# Altium footprint library SMT Chips.PcbLib: 19 footprints (part 1 of 2)
Each footprint in its own frame and in the unit in brackets; x right, y up, seen from the top. Pads: shape width x height; smd on the part's side, far side on the other; paste and mask are expansions set on the pad; w line width, h text height; cw(c..) or ccw(c..) is an arc to the next point about the centre after c.
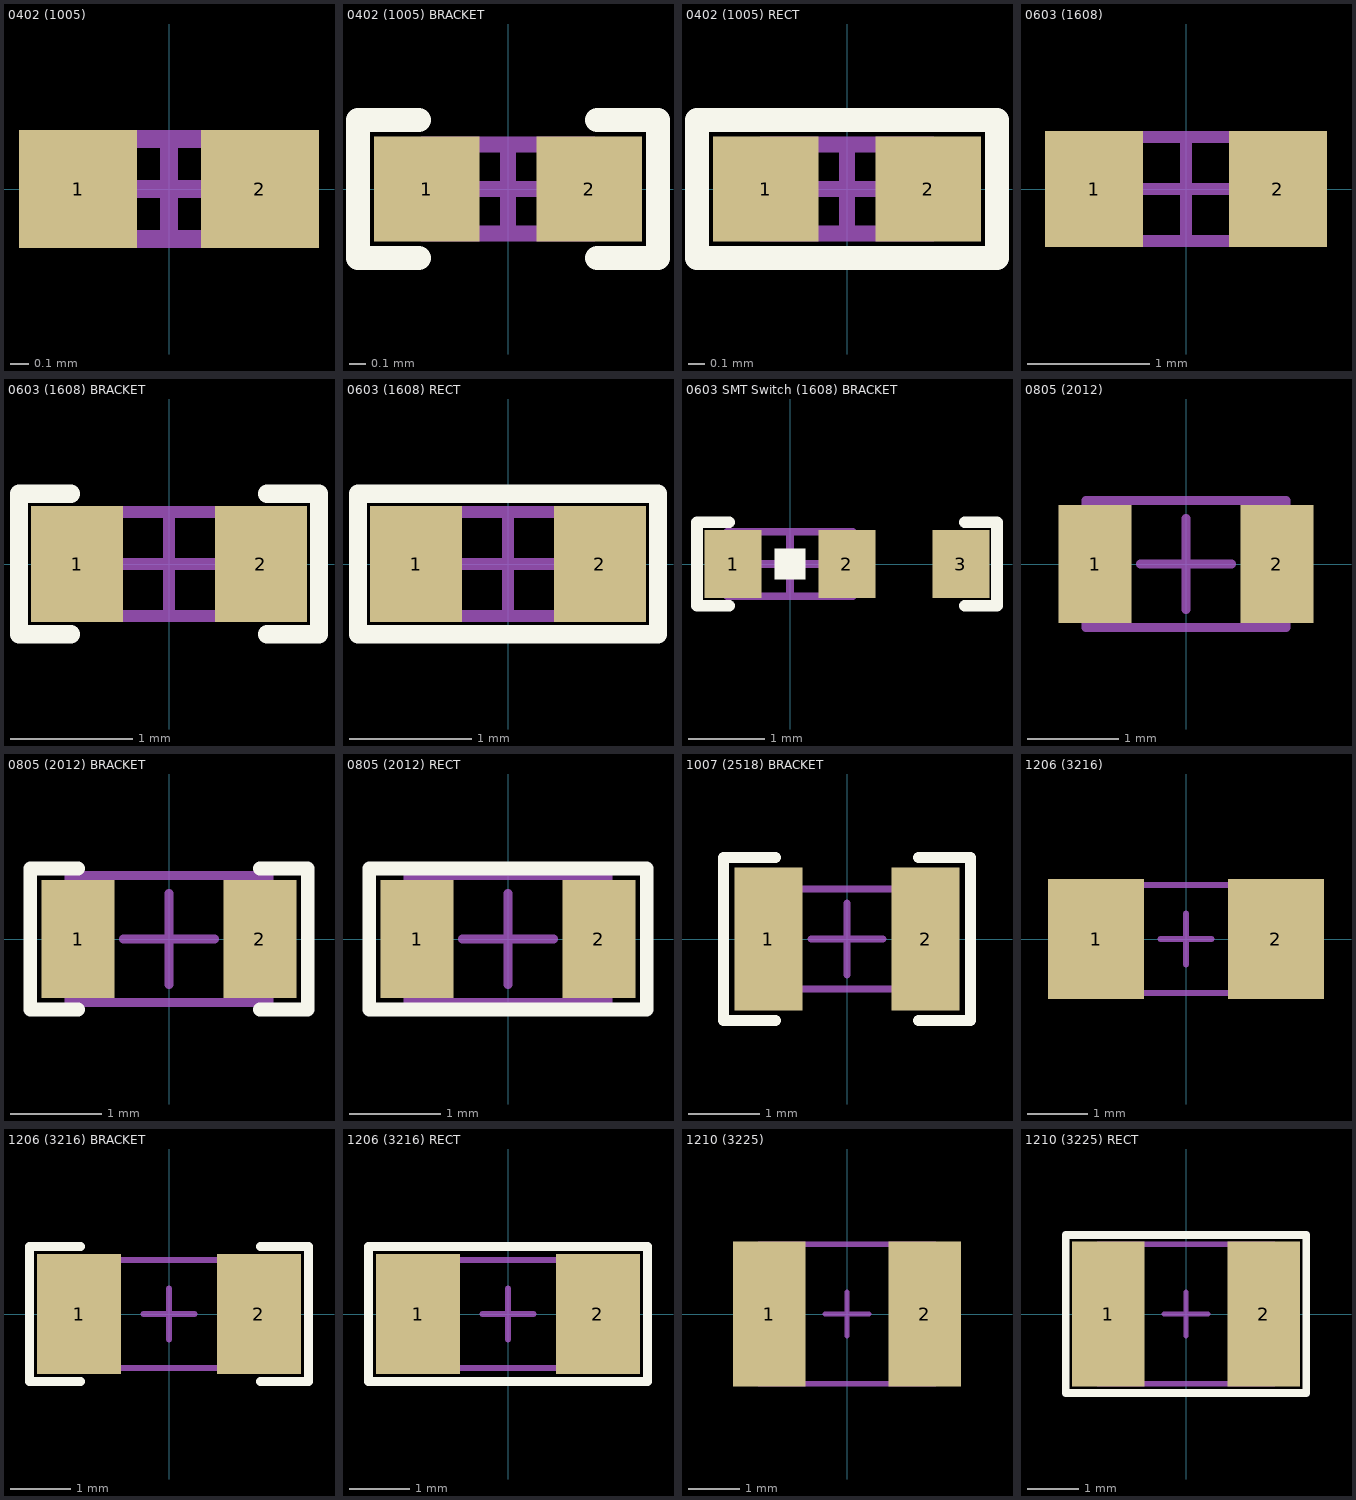
[diagram p0: the footprints below, top view; thin cyan lines are the x and y axes]

## 0402 (1005) [mm] "Chip 2-Leads 0402 Body 1.0x0.5mm (1005)"
height 0.5
pads (2):
  rect 0.65x0.65 smd mask+0: 1(-0.5,0) 2(0.5,0)
Mechanical 13:
  lines w0.1: -0.525,-0.275 -0.525,0.275 0.525,0.275 0.525,-0.275 -0.525,-0.275
Mechanical 15:
  lines w0.1: -0.275,0 0.275,0 ; 0,-0.275 0,0.275
3D body: height 0.55, standoff 0, extent 0.33,-0.279 0.533,0.279
3D body: height 0.53, standoff 0.03, extent -0.356,-0.254 0.356,0.254
3D body: height 0.55, standoff 0, extent -0.533,-0.279 -0.33,0.279

## 0402 (1005) BRACKET [mm] "Chip 2-Leads 0402 Body 1.0x0.5mm Bracket Silk Screen (1005)"
height 0.5
pads (2):
  rect 0.65x0.65 smd mask+0: 1(-0.5,0) 2(0.5,0)
Top Overlay:
  lines w0.15: -0.55,-0.425 -0.925,-0.425 -0.925,0.425 -0.55,0.425 ; 0.55,-0.425 0.925,-0.425 0.925,0.425 0.55,0.425
Mechanical 13:
  lines w0.1: -0.525,-0.275 0.525,-0.275 0.525,0.275 -0.525,0.275 -0.525,-0.275
Mechanical 15:
  lines w0.1: -0.275,0 0.275,0 ; 0,-0.275 0,0.275
3D body: height 0.55, standoff 0, extent -0.533,-0.279 -0.33,0.279
3D body: height 0.53, standoff 0.03, extent -0.356,-0.254 0.356,0.254
3D body: height 0.55, standoff 0, extent 0.33,-0.279 0.533,0.279

## 0402 (1005) RECT [mm] "Chip 2-Leads 0402 Body 1.0x0.5mm (1005) Rectangular Silk Screen"
height 0.5
pads (2):
  rect 0.65x0.65 smd mask+0: 1(-0.5,0) 2(0.5,0)
Top Overlay:
  lines w0.15: -0.925,-0.425 0.925,-0.425 0.925,0.425 -0.925,0.425 -0.925,-0.425
Mechanical 13:
  lines w0.1: -0.525,-0.275 -0.525,0.275 0.525,0.275 0.525,-0.275 -0.525,-0.275
Mechanical 15:
  lines w0.1: -0.275,0 0.275,0 ; 0,-0.275 0,0.275
3D body: height 0.55, standoff 0, extent 0.33,-0.279 0.533,0.279
3D body: height 0.53, standoff 0.03, extent -0.356,-0.254 0.356,0.254
3D body: height 0.55, standoff 0, extent -0.533,-0.279 -0.33,0.279

## 0603 (1608) [mm] "Chip 2-Leads 0603 (1608)"
height 0.6
pads (2):
  rect 0.8x0.95 smd mask+0: 1(-0.75,0) 2(0.75,0)
Mechanical 13:
  lines w0.1: -0.825,-0.425 -0.825,0.425 0.825,0.425 0.825,-0.425 -0.825,-0.425
Mechanical 15:
  lines w0.1: -0.425,0 0.425,0 ; 0,-0.425 0,0.425
3D body: height 0.55, standoff 0, extent 0.475,-0.425 0.775,0.425
3D body: height 0.55, standoff 0, extent -0.775,-0.425 -0.475,0.425
3D body: height 0.53, standoff 0.03, extent -0.525,-0.412 0.525,0.413

## 0603 (1608) BRACKET [mm] "Chip 2-Leads 0603 Bracket (1608)"
height 0.6
pads (2):
  rect 0.75x0.95 smd mask+0: 1(-0.75,0) 2(0.75,0)
Top Overlay:
  lines w0.15: -0.8,-0.575 -1.225,-0.575 -1.225,0.575 -0.8,0.575 ; 0.8,-0.575 1.225,-0.575 1.225,0.575 0.8,0.575
Mechanical 13:
  lines w0.1: -0.825,-0.425 -0.825,0.425 0.825,0.425 0.825,-0.425 -0.825,-0.425
Mechanical 15:
  lines w0.1: -0.425,0 0.425,0 ; 0,-0.425 0,0.425
3D body: height 0.55, standoff 0, extent 0.475,-0.425 0.775,0.425
3D body: height 0.55, standoff 0, extent -0.775,-0.425 -0.475,0.425
3D body: height 0.53, standoff 0.03, extent -0.525,-0.412 0.525,0.413

## 0603 (1608) RECT [mm] "Chip 2-Leads 0603 Rectangular Silk Screen (1608)"
height 6
pads (2):
  rect 0.75x0.95 smd mask+0: 1(-0.75,0) 2(0.75,0)
Top Overlay:
  lines w0.15: -1.225,-0.575 1.225,-0.575 1.225,0.575 -1.225,0.575 -1.225,-0.575
Mechanical 13:
  lines w0.1: -0.825,-0.425 -0.825,0.425 0.825,0.425 0.825,-0.425 -0.825,-0.425
Mechanical 15:
  lines w0.1: -0.425,0 0.425,0 ; 0,-0.425 0,0.425
3D body: height 0.55, standoff 0, extent 0.475,-0.425 0.775,0.425
3D body: height 0.55, standoff 0, extent -0.775,-0.425 -0.475,0.425
3D body: height 0.53, standoff 0.03, extent -0.525,-0.412 0.525,0.413

## 0603 SMT Switch (1608) BRACKET [mm] "0603 Switch Bracket (1608)"
height 0.6
pads (3):
  rect 0.75x0.9 smd mask+0: 1(-0.75,0) 2(0.75,0) 3(2.249,0)
Top Overlay:
  rectangle: -0.203,-0.203 0.203,0.203
  lines w0.152: -0.8,-0.55 -1.225,-0.55 -1.225,0.55 -0.8,0.55 ; 2.299,-0.55 2.725,-0.55 2.725,0.55 2.299,0.55
Mechanical 13:
  lines w0.1: -0.825,-0.425 -0.825,0.425 0.825,0.425 0.825,-0.425 -0.825,-0.425
Mechanical 15:
  lines w0.1: -0.425,0 0.425,0 ; 0,-0.425 0,0.425
3D body: height 0.55, standoff 0, extent 0.475,-0.425 0.775,0.425
3D body: height 0.55, standoff 0, extent -0.775,-0.425 -0.475,0.425
3D body: height 0.53, standoff 0.03, extent -0.525,-0.412 0.525,0.413

## 0805 (2012) [mm] "Chip 2-Leads, IPC Medium Density (2012)"
height 0.5
pads (2):
  rect 0.8x1.3 smd mask+0: 1(-1,0) 2(1,0)
Mechanical 13:
  lines w0.1: -1.1,-0.7 -1.1,0.7 1.1,0.7 1.1,-0.7 -1.1,-0.7
Mechanical 15:
  lines w0.1: -0.5,0 0.5,0 ; 0,-0.5 0,0.5
3D body: height 0.5, standoff 0, extent 0.75,-0.625 1.05,0.625
3D body: height 0.5, standoff 0, extent -1.05,-0.625 -0.75,0.625
3D body: height 0.46, standoff 0.03, extent -0.8,-0.6 0.8,0.6

## 0805 (2012) BRACKET [mm] "Chip 2-Leads 0805 Bracket Silk Screen (2012)"
height 0.5
pads (2):
  rect 0.8x1.3 smd mask+0: 1(-1,0) 2(1,0)
Top Overlay:
  lines w0.15: -1,-0.775 -1.525,-0.775 -1.525,0.775 -1,0.775 ; 1,-0.775 1.525,-0.775 1.525,0.775 1,0.775
Mechanical 13:
  lines w0.1: -1.1,-0.7 1.1,-0.7 1.1,0.7 -1.1,0.7 -1.1,-0.7
Mechanical 15:
  lines w0.1: -0.5,0 0.5,0 ; 0,-0.5 0,0.5
3D body: height 0.46, standoff 0.03, extent -0.8,-0.6 0.8,0.6
3D body: height 0.5, standoff 0, extent -1.05,-0.625 -0.75,0.625
3D body: height 0.5, standoff 0, extent 0.75,-0.625 1.05,0.625

## 0805 (2012) RECT [mm] "Chip 2-Leads 0805 Rectangular Silk Screen (2012)"
height 0.5
pads (2):
  rect 0.8x1.3 smd mask+0: 1(-1,0) 2(1,0)
Top Overlay:
  lines w0.15: -1.525,-0.775 1.525,-0.775 1.525,0.775 -1.525,0.775 -1.525,-0.775
Mechanical 13:
  lines w0.1: -1.1,-0.7 1.1,-0.7 1.1,0.7 -1.1,0.7 -1.1,-0.7
Mechanical 15:
  lines w0.1: -0.5,0 0.5,0 ; 0,-0.5 0,0.5
3D body: height 0.46, standoff 0.03, extent -0.8,-0.6 0.8,0.6
3D body: height 0.5, standoff 0, extent -1.05,-0.625 -0.75,0.625
3D body: height 0.5, standoff 0, extent 0.75,-0.625 1.05,0.625

## 1007 (2518) BRACKET [mm] "Chip 2-Leads 0805 Bracket Silk Screen (2012)"
height 0.5
pads (2):
  rect 0.95x2 smd mask+0.051: 1(-1.1,0) 2(1.1,0)
Top Overlay:
  lines w0.152: -1,-1.143 -1.727,-1.143 -1.727,1.143 -1,1.143 ; 1,-1.143 1.727,-1.143 1.727,1.143 1,1.143
Mechanical 13:
  lines w0.1: -1.1,-0.7 -1.1,0.7 1.1,0.7 1.1,-0.7 -1.1,-0.7
Mechanical 15:
  lines w0.1: -0.5,0 0.5,0 ; 0,-0.5 0,0.5
3D body: height 1.8, standoff 0, extent -1.346,-0.991 -0.838,0.991
3D body: height 1.75, standoff 0.03, extent -0.864,-0.965 0.864,0.965
3D body: height 1.8, standoff 0, extent 0.838,-0.991 1.346,0.991

## 1206 (3216) [mm] "Chip 2-Leads 1206 Body 3.2x2.1mm (3216)"
height 0.5
pads (2):
  rect 1.6x2 smd mask+0.051: 1(-1.5,0) 2(1.5,0)
Mechanical 13:
  lines w0.1: -1.7,-0.9 -1.7,0.9 1.7,0.9 1.7,-0.9 -1.7,-0.9
Mechanical 15:
  lines w0.1: -0.425,0 0.425,0 ; 0,-0.425 0,0.425
3D body: height 1.72, standoff -0.02, extent -1.6,-0.85 1.6,0.85

## 1206 (3216) BRACKET [mm] "Chip 2-Leads 1206 Body 3.2x2.1mm (3216)"
height 0.5
pads (2):
  rect 1.4x2 smd mask+0: 1(-1.5,0) 2(1.5,0)
Top Overlay:
  lines w0.152: -1.473,-1.125 -2.325,-1.125 -2.325,1.125 -1.473,1.125 ; 1.524,-1.125 2.325,-1.125 2.325,1.125 1.524,1.125
Mechanical 13:
  lines w0.1: -1.7,-0.9 -1.7,0.9 1.7,0.9 1.7,-0.9 -1.7,-0.9
Mechanical 15:
  lines w0.1: -0.425,0 0.425,0 ; 0,-0.425 0,0.425
3D body: height 1.72, standoff -0.02, extent -1.6,-0.85 1.6,0.85

## 1206 (3216) RECT [mm] "Chip 2-Leads 1206 Body 3.2x2.1mm (3216)"
height 0.5
pads (2):
  rect 1.4x2 smd mask+0: 1(-1.5,0) 2(1.5,0)
Top Overlay:
  lines w0.152: -2.325,-1.125 -2.325,1.125 2.325,1.125 2.325,-1.125 -2.325,-1.125
Mechanical 13:
  lines w0.1: -1.7,-0.9 -1.7,0.9 1.7,0.9 1.7,-0.9 -1.7,-0.9
Mechanical 15:
  lines w0.1: -0.425,0 0.425,0 ; 0,-0.425 0,0.425
3D body: height 1.72, standoff -0.02, extent -1.6,-0.85 1.6,0.85

## 1210 (3225) [mm] "Chip  2-Leads 1210 Body 3.2x2.5mm Rectangular Silk Screen (3225)"
height 0.5
pads (2):
  rect 1.4x2.8 smd mask+0: 1(-1.5,0) 2(1.5,0)
Mechanical 13:
  lines w0.1: -1.7,-1.35 -1.7,1.35 1.7,1.35 1.7,-1.35 -1.7,-1.35
Mechanical 15:
  lines w0.1: -0.425,0 0.425,0 ; 0,-0.425 0,0.425
3D body: height 2.5, standoff 0, extent -1.6,-1.245 1.6,1.255

## 1210 (3225) RECT [mm] "Chip  2-Leads 1210 Body 3.2x2.5mm Rectangular Silk Screen (3225)"
height 0.5
pads (2):
  rect 1.4x2.8 smd mask+0: 1(-1.5,0) 2(1.5,0)
Top Overlay:
  lines w0.152: -2.325,-1.525 -2.325,1.525 2.325,1.525 2.325,-1.525 -2.325,-1.525
Mechanical 13:
  lines w0.1: -1.7,-1.35 1.7,-1.35 1.7,1.35 -1.7,1.35 -1.7,-1.35
Mechanical 15:
  lines w0.1: -0.425,0 0.425,0 ; 0,-0.425 0,0.425
3D body: height 2.5, standoff 0, extent -1.6,-1.245 1.6,1.255